# Altium integrated library RJMG1BD3B8K1ANR.IntLib: 1 symbol
Pins are listed as number, name and electrical type; pins without a type are passive.

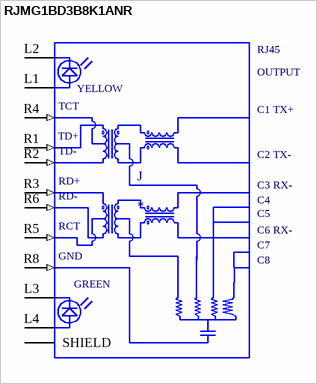
[diagram p0: symbol RJMG1BD3B8K1ANR]

## RJMG1BD3B8K1ANR
designator J
1 Port RJ45 Magjack Connector Through Hole 10/100 Base-T, AutoMDIX; MF: Amphenol ICC; MP: RJMG1BD3B8K1ANR; SnapEDA_Link: https://www.snapeda.com/parts/RJMG1BD3B8K1ANR/Amphenol%20FCI/view-part/1683132/?ref=snap; Digi-Key_Part_Number: RJMG1BD3B8K1ANR-ND; Value: *; Digi-Key_Purchase_URL: https://www.digikey.com/product-detail/en/amphenol-icc-commercial-products/RJMG1BD3B8K1ANR/RJMG1BD3B8K1ANR-ND/5359794?utm_source=snapeda&utm_medium=aggregator&utm_campaign=symbol; Package: None
footprint CONN_RJMG1BD3B8K1ANR
pins: 1 SHIELD, 2 SHIELD, L1, L2, L3, L4, R1 TD+ (in), R2 TD- (in), R3 RD+ (in), R4 TCT (in), R5 RCT (in), R6 RD- (in), R8 GND (in)
text: RJ45; OUTPUT; YELLOW; C1 TX+; C2 TX-; C3 RX-; C4; C5; C6 RX-; C7; C8; GREEN